# Altium footprint library MP9447GL-P.PcbLib: 3 footprints
Each footprint in its own frame and in the unit in brackets; x right, y up, seen from the top. Pads: shape width x height; smd on the part's side, far side on the other; paste and mask are expansions set on the pad; w line width, h text height; cw(c..) or ccw(c..) is an arc to the next point about the centre after c.
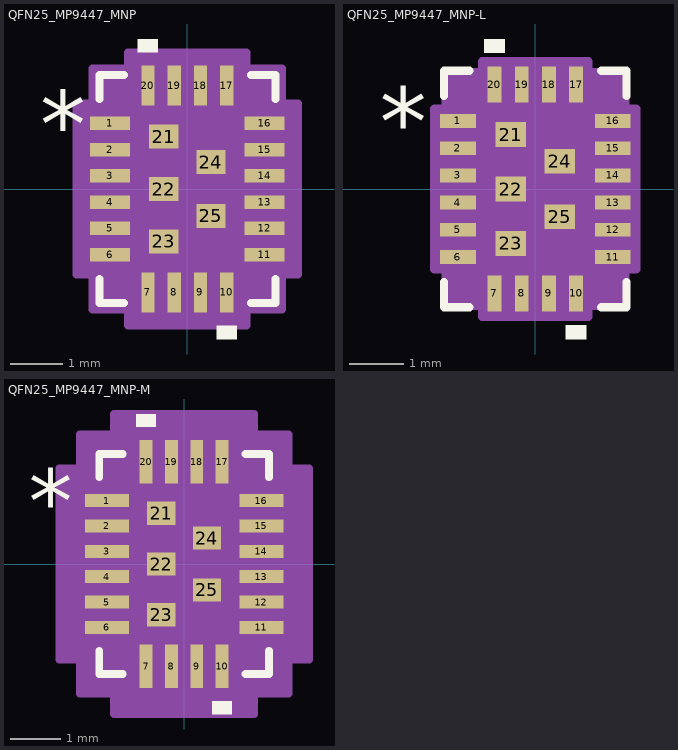
[diagram p0: the footprints below, top view; thin cyan lines are the x and y axes]

## QFN25_MP9447_MNP [mil]
pads (25):
  rect 30x10 smd paste+0 mask+0: 1(-58,49.21) 2(-58,29.53) 3(-58,9.84) 4(-58,-9.84) 5(-58,-29.53) 6(-58,-49.21) 11(58,-49.21) 12(58,-29.53) 13(58,-9.84) 14(58,9.84) 15(58,29.53) 16(58,49.21)
  rect 10x30 smd paste+0 mask+0: 7(-29.53,-77.5) 8(-9.84,-77.5) 9(9.84,-77.5) 10(29.53,-77.5) 17(29.53,77.5) 18(9.84,77.5) 19(-9.84,77.5) 20(-29.53,77.5)
  rect 22x18 smd paste+0 mask+0: 21(-17.72,39.37) 22(-17.72,0) 23(-17.72,-39.37) 24(17.72,20.08) 25(17.72,-20.08)
Top Overlay:
  region: 37.03,-102.5 22.03,-102.5 22.03,-112.5 37.03,-112.5
  region: -22.03,102.5 -37.03,102.5 -37.03,112.5 -22.03,112.5
  lines w6: -66,-67.31 -66,-85.5 -47.63,-85.5 ; -66,67.31 -66,85.5 -47.63,85.5 ; 47.63,-85.5 66,-85.5 66,-67.31 ; 47.63,85.5 66,85.5 66,67.31
  text "*" at -110.5,24.21 h50
Mechanical 13:
  lines w1: -61,30.5 -11,80.5 ; -61,-80.5 61,-80.5 61,80.5 -61,80.5 -61,-80.5 ; -61,-55.21 -61,-43.21 -61,-55.21 ; -61,-35.53 -61,-23.53 -61,-35.53 ; -61,-15.84 -61,-3.84 -61,-15.84 ; -61,3.84 -61,15.84 -61,3.84 ; -61,23.53 -61,35.53 -61,23.53 ; -61,43.21 -61,55.21 -61,43.21 ; -35.53,-80.5 -23.53,-80.5 -35.53,-80.5 ; -35.53,80.5 -23.53,80.5 -35.53,80.5 ; -15.84,-80.5 -3.84,-80.5 -15.84,-80.5 ; -15.84,80.5 -3.84,80.5 -15.84,80.5 ; 3.84,-80.5 15.84,-80.5 3.84,-80.5 ; 3.84,80.5 15.84,80.5 3.84,80.5 ; 23.53,-80.5 35.53,-80.5 23.53,-80.5 ; 23.53,80.5 35.53,80.5 23.53,80.5 ; 61,-55.21 61,-43.21 61,-55.21 ; 61,-35.53 61,-23.53 61,-35.53 ; 61,-15.84 61,-3.84 61,-15.84 ; 61,3.84 61,15.84 61,3.84 ; 61,23.53 61,35.53 61,23.53 ; 61,43.21 61,55.21 61,43.21
  text "*" at -30.5,24.21 h50
Mechanical 15:
  region: -44.53,-90.5 -71,-90.5 -71,-64.21 -83,-64.21 -83,64.21 -71,64.21 -71,90.5 -44.53,90.5 -44.53,102.5 44.53,102.5 44.53,90.5 71,90.5 71,64.21 83,64.21 83,-64.21 71,-64.21 71,-90.5 44.53,-90.5 44.53,-102.5 -44.53,-102.5
  lines w6: -83,-64.21 -71,-64.21 -71,-90.5 -44.53,-90.5 -44.53,-102.5 44.53,-102.5 44.53,-90.5 71,-90.5 71,-64.21 83,-64.21 83,64.21 71,64.21 71,90.5 44.53,90.5 44.53,102.5 -44.53,102.5 -44.53,90.5 -71,90.5 -71,64.21 -83,64.21 -83,-64.21
3D body "QFN25_MP9447_MNP.step": height 39.09, standoff 0, extent -60.98,-80.51 60.98,80.51

## QFN25_MP9447_MNP-L [mil]
pads (25):
  rect 26x10 smd paste+0 mask+0: 1(-56,49.21) 2(-56,29.53) 3(-56,9.84) 4(-56,-9.84) 5(-56,-29.53) 6(-56,-49.21) 11(56,-49.21) 12(56,-29.53) 13(56,-9.84) 14(56,9.84) 15(56,29.53) 16(56,49.21)
  rect 10x26 smd paste+0 mask+0: 7(-29.53,-75.5) 8(-9.84,-75.5) 9(9.84,-75.5) 10(29.53,-75.5) 17(29.53,75.5) 18(9.84,75.5) 19(-9.84,75.5) 20(-29.53,75.5)
  rect 22x18 smd paste+0 mask+0: 21(-17.72,39.37) 22(-17.72,0) 23(-17.72,-39.37) 24(17.72,20.08) 25(17.72,-20.08)
Top Overlay:
  region: -22.03,98.5 -37.03,98.5 -37.03,108.5 -22.03,108.5
  region: 37.03,-98.5 22.03,-98.5 22.03,-108.5 37.03,-108.5
  lines w6: -66,-67.31 -66,-85.5 -47.63,-85.5 ; -66,67.31 -66,85.5 -47.63,85.5 ; 47.63,-85.5 66,-85.5 66,-67.31 ; 47.63,85.5 66,85.5 66,67.31
  text "*" at -112.5,24.21 h50
Mechanical 13:
  lines w1: -61,30.5 -11,80.5 ; -61,-80.5 -61,80.5 61,80.5 61,-80.5 -61,-80.5 ; -61,-55.21 -61,-43.21 -61,-55.21 ; -61,-35.53 -61,-23.53 -61,-35.53 ; -61,-15.84 -61,-3.84 -61,-15.84 ; -61,3.84 -61,15.84 -61,3.84 ; -61,23.53 -61,35.53 -61,23.53 ; -61,43.21 -61,55.21 -61,43.21 ; -35.53,-80.5 -23.53,-80.5 -35.53,-80.5 ; -35.53,80.5 -23.53,80.5 -35.53,80.5 ; -15.84,-80.5 -3.84,-80.5 -15.84,-80.5 ; -15.84,80.5 -3.84,80.5 -15.84,80.5 ; 3.84,-80.5 15.84,-80.5 3.84,-80.5 ; 3.84,80.5 15.84,80.5 3.84,80.5 ; 23.53,-80.5 35.53,-80.5 23.53,-80.5 ; 23.53,80.5 35.53,80.5 23.53,80.5 ; 61,-55.21 61,-43.21 61,-55.21 ; 61,-35.53 61,-23.53 61,-35.53 ; 61,-15.84 61,-3.84 61,-15.84 ; 61,3.84 61,15.84 61,3.84 ; 61,23.53 61,35.53 61,23.53 ; 61,43.21 61,55.21 61,43.21
  text "*" at -24.5,24.21 h50
Mechanical 15:
  region: -38.53,-84.5 -65,-84.5 -65,-58.21 -73,-58.21 -73,58.21 -65,58.21 -65,84.5 -38.53,84.5 -38.53,92.5 38.53,92.5 38.53,84.5 65,84.5 65,58.21 73,58.21 73,-58.21 65,-58.21 65,-84.5 38.53,-84.5 38.53,-92.5 -38.53,-92.5
  lines w6: -73,-58.21 -73,58.21 -65,58.21 -65,84.5 -38.53,84.5 -38.53,92.5 38.53,92.5 38.53,84.5 65,84.5 65,58.21 73,58.21 73,-58.21 65,-58.21 65,-84.5 38.53,-84.5 38.53,-92.5 -38.53,-92.5 -38.53,-84.5 -65,-84.5 -65,-58.21 -73,-58.21
3D body "QFN25_MP9447_MNP.step": height 39.09, standoff 0, extent -60.98,-80.51 60.98,80.51

## QFN25_MP9447_MNP-M [mil]
pads (25):
  rect 34x10 smd paste+0 mask+0: 1(-60,49.21) 2(-60,29.53) 3(-60,9.84) 4(-60,-9.84) 5(-60,-29.53) 6(-60,-49.21) 11(60,-49.21) 12(60,-29.53) 13(60,-9.84) 14(60,9.84) 15(60,29.53) 16(60,49.21)
  rect 10x34 smd paste+0 mask+0: 7(-29.53,-79.5) 8(-9.84,-79.5) 9(9.84,-79.5) 10(29.53,-79.5) 17(29.53,79.5) 18(9.84,79.5) 19(-9.84,79.5) 20(-29.53,79.5)
  rect 22x18 smd paste+0 mask+0: 21(-17.72,39.37) 22(-17.72,0) 23(-17.72,-39.37) 24(17.72,20.08) 25(17.72,-20.08)
Top Overlay:
  region: -22.03,106.5 -37.03,106.5 -37.03,116.5 -22.03,116.5
  region: 37.03,-106.5 22.03,-106.5 22.03,-116.5 37.03,-116.5
  lines w6: -66,-67.31 -66,-85.5 -47.63,-85.5 ; -66,67.31 -66,85.5 -47.63,85.5 ; 47.63,-85.5 66,-85.5 66,-67.31 ; 47.63,85.5 66,85.5 66,67.31
  text "*" at -120.5,24.21 h50
Mechanical 13:
  lines w1: -61,30.5 -11,80.5 ; -61,-80.5 -61,80.5 61,80.5 61,-80.5 -61,-80.5 ; -61,-55.21 -61,-43.21 -61,-55.21 ; -61,-35.53 -61,-23.53 -61,-35.53 ; -61,-15.84 -61,-3.84 -61,-15.84 ; -61,3.84 -61,15.84 -61,3.84 ; -61,23.53 -61,35.53 -61,23.53 ; -61,43.21 -61,55.21 -61,43.21 ; -35.53,-80.5 -23.53,-80.5 -35.53,-80.5 ; -35.53,80.5 -23.53,80.5 -35.53,80.5 ; -15.84,-80.5 -3.84,-80.5 -15.84,-80.5 ; -15.84,80.5 -3.84,80.5 -15.84,80.5 ; 3.84,-80.5 15.84,-80.5 3.84,-80.5 ; 3.84,80.5 15.84,80.5 3.84,80.5 ; 23.53,-80.5 35.53,-80.5 23.53,-80.5 ; 23.53,80.5 35.53,80.5 23.53,80.5 ; 61,-55.21 61,-43.21 61,-55.21 ; 61,-35.53 61,-23.53 61,-35.53 ; 61,-15.84 61,-3.84 61,-15.84 ; 61,3.84 61,15.84 61,3.84 ; 61,23.53 61,35.53 61,23.53 ; 61,43.21 61,55.21 61,43.21
  text "*" at -24.5,24.21 h50
Mechanical 15:
  region: -54.53,-100.5 -81,-100.5 -81,-74.21 -97,-74.21 -97,74.21 -81,74.21 -81,100.5 -54.53,100.5 -54.53,116.5 54.53,116.5 54.53,100.5 81,100.5 81,74.21 97,74.21 97,-74.21 81,-74.21 81,-100.5 54.53,-100.5 54.53,-116.5 -54.53,-116.5
  lines w6: -97,-74.21 -97,74.21 -81,74.21 -81,100.5 -54.53,100.5 -54.53,116.5 54.53,116.5 54.53,100.5 81,100.5 81,74.21 97,74.21 97,-74.21 81,-74.21 81,-100.5 54.53,-100.5 54.53,-116.5 -54.53,-116.5 -54.53,-100.5 -81,-100.5 -81,-74.21 -97,-74.21
3D body "QFN25_MP9447_MNP.step": height 39.09, standoff 0, extent -60.98,-80.51 60.98,80.51